# Altium schematic symbol library SCH - POWER - SWITCHMODE - ANALOG LTC3805EMSE.SCHLIB: 1 symbol
Pins are listed as number, name and electrical type; pins without a type are passive.

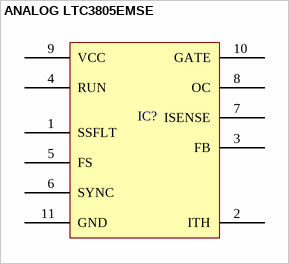
[diagram p0: symbol ANALOG LTC3805EMSE]

## ANALOG LTC3805EMSE
designator IC?
pins: 1 SSFLT, 2 ITH, 3 FB, 4 RUN, 5 FS, 6 SYNC, 7 ISENSE, 8 OC, 9 VCC, 10 GATE, 11 GND